# Altium footprint library 220uF_35V_8x10mm_capacitor.PcbLib: 1 footprints
Each footprint in its own frame and in the unit in brackets; x right, y up, seen from the top. Pads: shape width x height; smd on the part's side, far side on the other; paste and mask are expansions set on the pad; w line width, h text height; cw(c..) or ccw(c..) is an arc to the next point about the centre after c.
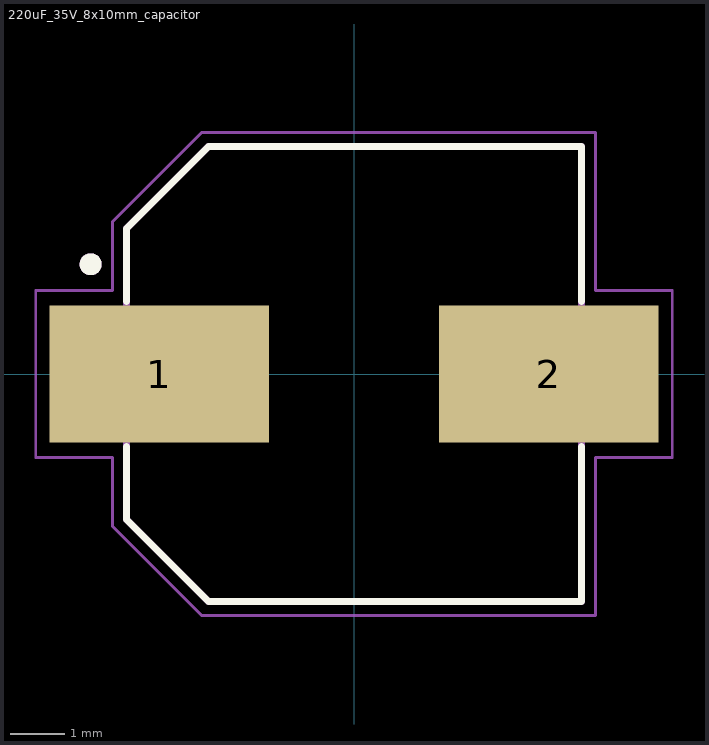
[diagram p0: the footprint, top view; thin cyan lines are the x and y axes]

## 220uF_35V_8x10mm_capacitor [mm]
height 10.2
pads (2):
  rect 4x2.5 smd: 1(-3.55,0) 2(3.55,0)
Top Overlay:
  circle w0.2: c-4.8,2 r0.1
  lines w0.127: -4.15,-1.32 -4.15,-2.65 -2.65,-4.15 4.15,-4.15 4.15,-1.32 ; -4.15,1.32 -4.15,2.65 -2.65,4.15 4.15,4.15 4.15,1.32
Assembly Top:
  circle w0.2: c-4.8,2 r0.1
  lines w0.127: -4.15,-2.65 -2.65,-4.15 4.15,-4.15 4.15,4.15 -2.65,4.15 -4.15,2.65 -4.15,-2.65
Courtyard Top:
  lines w0.05: -5.8,-1.524 -5.8,1.524 -4.4,1.524 -4.4,2.775 -2.775,4.4 4.4,4.4 4.4,1.524 5.8,1.524 5.8,-1.524 4.4,-1.524 4.4,-4.4 -2.775,-4.4 -4.4,-2.775 -4.4,-1.524 -5.8,-1.524
3D body "step_temp.STEP": height 10.2, standoff 0, extent -4.85,-4.15 4.85,4.15